# EAGLE library part MAX6921/31 (library boztalay)
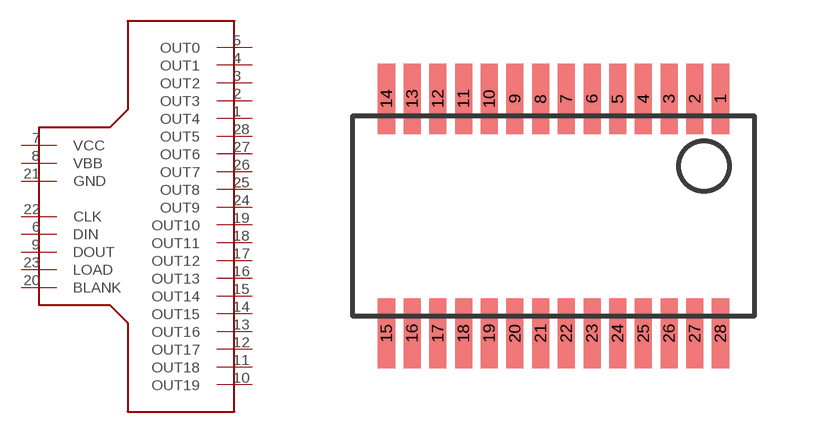
[diagram p3: symbol with the pads of TSSOP-28; footprint TSSOP-28]

Designator prefix -

## MAX6921/31  [TSSOP-28]
1  OUT4
2  OUT3
3  OUT2
4  OUT1
5  OUT0
6  DIN
7  VCC
8  VBB
9  DOUT
10  OUT19
11  OUT18
12  OUT17
13  OUT16
14  OUT15
15  OUT14
16  OUT13
17  OUT12
18  OUT11
19  OUT10
20  BLANK
21  GND
22  CLK
23  LOAD
24  OUT9
25  OUT8
26  OUT7
27  OUT6
28  OUT5

## Footprint TSSOP-28 (pad centres in mm)
smd 0.432 x 1.778: 1 4.227,2.972; 2 3.576,2.972; 3 2.926,2.972; 4 2.276,2.972; 5 1.626,2.972; 6 0.975,2.972; 7 0.325,2.972; 8 -0.325,2.972; 9 -0.975,2.972; 10 -1.626,2.972; 11 -2.276,2.972; 12 -2.926,2.972; 13 -3.576,2.972; 14 -4.227,2.972; 15 -4.227,-2.972; 16 -3.576,-2.972; 17 -2.926,-2.972; 18 -2.276,-2.972; 19 -1.626,-2.972; 20 -0.975,-2.972; 21 -0.325,-2.972; 22 0.325,-2.972; 23 0.975,-2.972; 24 1.626,-2.972; 25 2.276,-2.972; 26 2.926,-2.972; 27 3.576,-2.972; 28 4.227,-2.972